# EAGLE library part SN65C1168PWR (library sb2030_logger)
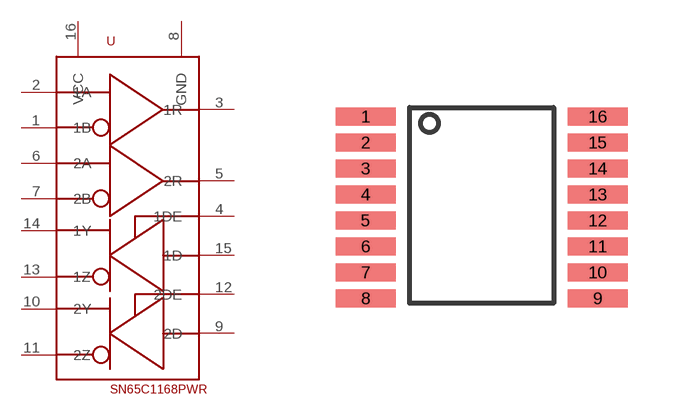
[diagram p1: symbol with the pads of 16-TSSOP; footprint 16-TSSOP]

Designator prefix -

## SN65C1168PWR  [16-TSSOP]
1  1B
2  1A
3  1R
4  1DE
5  2R
6  2A
7  2B
8  GND
9  2D
10  2Y
11  2Z
12  2DE
13  1Z
14  1Y
15  1D
16  VCC

## Footprint 16-TSSOP (pad centres in mm)
smd 1.5 x 0.45: 1 -2.9,2.275; 2 -2.9,1.625; 3 -2.9,0.975; 4 -2.9,0.325; 5 -2.9,-0.325; 6 -2.9,-0.975; 7 -2.9,-1.625; 8 -2.9,-2.275; 9 2.9,-2.275; 10 2.9,-1.625; 11 2.9,-0.975; 12 2.9,-0.325; 13 2.9,0.325; 14 2.9,0.975; 15 2.9,1.625; 16 2.9,2.275